# Altium schematic symbol library JDY-23.SchLib: 1 symbol
Pins are listed as number, name and electrical type; pins without a type are passive.

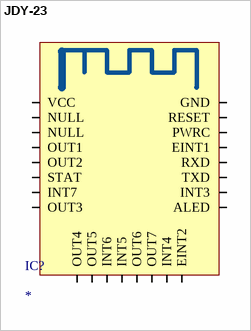
[diagram p0: symbol JDY-23]

## JDY-23
designator IC?
Bluetooth module, 2.4 GHz
footprint JDY-23
pins: 1 VCC, 2 NULL, 3 NULL, 4 OUT1, 5 OUT2, 6 STAT, 7 INT7, 8 OUT3, 9 OUT4, 10 OUT5, 11 INT6, 12 INT5, 13 OUT6, 14 OUT7, 15 INT4, 16 EINT2, 17 ALED, 18 INT3, 19 TXD, 20 RXD, 21 EINT1, 22 PWRC, 23 RESET, 24 GND